# EAGLE library part 53048-1510 (library 53048-1510)
Molex PicoBlade 53048, 15 Way, 1 Row, Right Angle PCB Header Source: Datasheet <https://www.molex.com/pdm_docs/sd/530481510_sd.pdf>
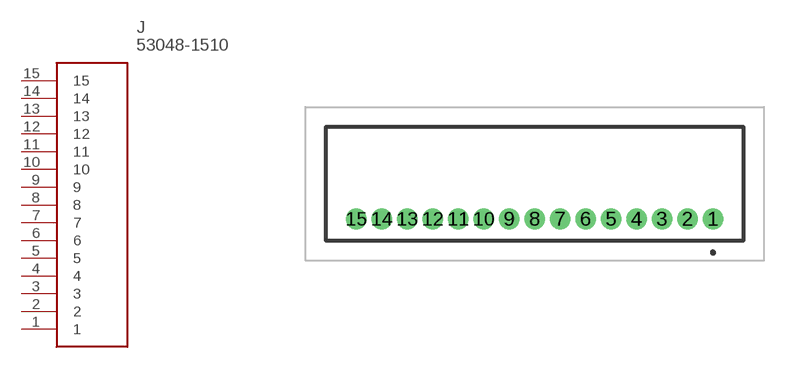
[diagram p0: symbol with the pads of 530481510; footprint 530481510]

Designator prefix J

## 53048-1510 (Description: Molex PicoBlade 53048, 15 Way, 1 Row, Right Angle PCB Header; Height: 3.7mm; Manufacturer_Name: Molex; Manufacturer_Part_Number: 53048-1510; Mouser_Part_Number: 538-53048-1510; Mouser_Price-Stock: https://www.mouser.co.uk/ProductDetail/Molex/53048-1510?qs=UAyrm%2FnZ%252BChQmj9sthvrTQ%3D%3D)  [530481510]
1  1
2  2
3  3
4  4
5  5
6  6
7  7
8  8
9  9
10  10
11  11
12  12
13  13
14  14
15  15

## Footprint 530481510 (pad centres in mm)
53048-1510-1
drill 0.5 pad 1: 1 0,0; 2 -1.25,0; 3 -2.5,0; 4 -3.75,0; 5 -5,0; 6 -6.25,0; 7 -7.5,0; 8 -8.75,0; 9 -10,0; 10 -11.25,0; 11 -12.5,0; 12 -13.75,0; 13 -15,0; 14 -16.25,0; 15 -17.5,0